# EAGLE library part POWERSENSOR (library powerboard)
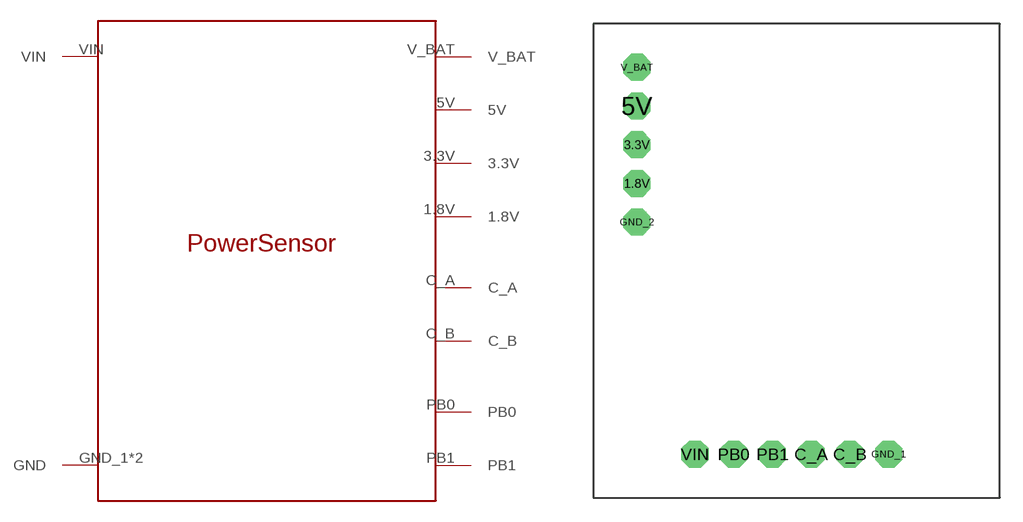
[diagram p1: symbol with the pads of POWERSENSOR; footprint POWERSENSOR]

Designator prefix -

## POWERSENSOR  [POWERSENSOR]
1.8V  1.8V
3.3V  3.3V
5V  5V
C_A  C_A
C_B  C_B
GND_1  GND
GND_2  GND
PB0  PB0
PB1  PB1
V_BAT  V_BAT
VIN  VIN

## Footprint POWERSENSOR (pad centres in mm)
drill 1 pad 1.778 octagon: 1.8V 2.857,20.637; 3.3V 2.857,23.177; 5V 2.857,25.718; C_A 14.287,2.857; C_B 16.828,2.857; GND_1 19.367,2.857; GND_2 2.857,18.098; PB0 9.207,2.857; PB1 11.748,2.857; V_BAT 2.857,28.258; VIN 6.668,2.857